# EAGLE library part ATCBUS (library ATCBUS)
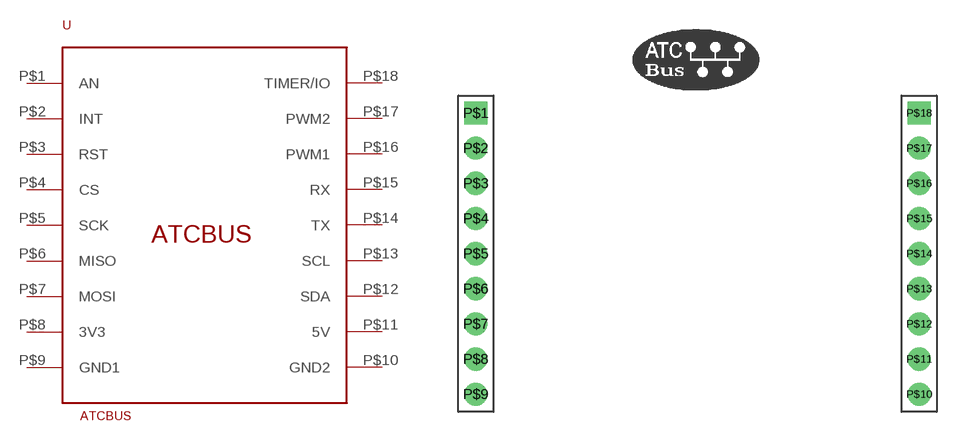
[diagram p0: symbol with the pads of ATCBUS; footprint ATCBUS]

Designator prefix -

## ATCBUS  [ATCBUS]
P$1  AN
P$2  INT
P$3  RST
P$4  CS
P$5  SCK
P$6  MISO
P$7  MOSI
P$8  3V3
P$9  GND1
P$10  GND2
P$11  5V
P$12  SDA
P$13  SCL
P$14  TX
P$15  RX
P$16  PWM1
P$17  PWM2
P$18  TIMER/IO

## Footprint ATCBUS (pad centres in mm)
drill 1 pad 1.676 square: P$1 0,-0.051; P$18 32,-0.051
drill 1 pad 1.676: P$2 0,-2.591; P$3 0,-5.131; P$4 0,-7.671; P$5 0,-10.211; P$6 0,-12.751; P$7 0,-15.291; P$8 0,-17.831; P$9 0,-20.371; P$10 32,-20.371; P$11 32,-17.831; P$12 32,-15.291; P$13 32,-12.751; P$14 32,-10.211; P$15 32,-7.671; P$16 32,-5.131; P$17 32,-2.591